# Altium schematic symbol library HeadersPin_1rows_M_180.SchLib: 40 symbols
Pins are listed as number, name and electrical type; pins without a type are passive.

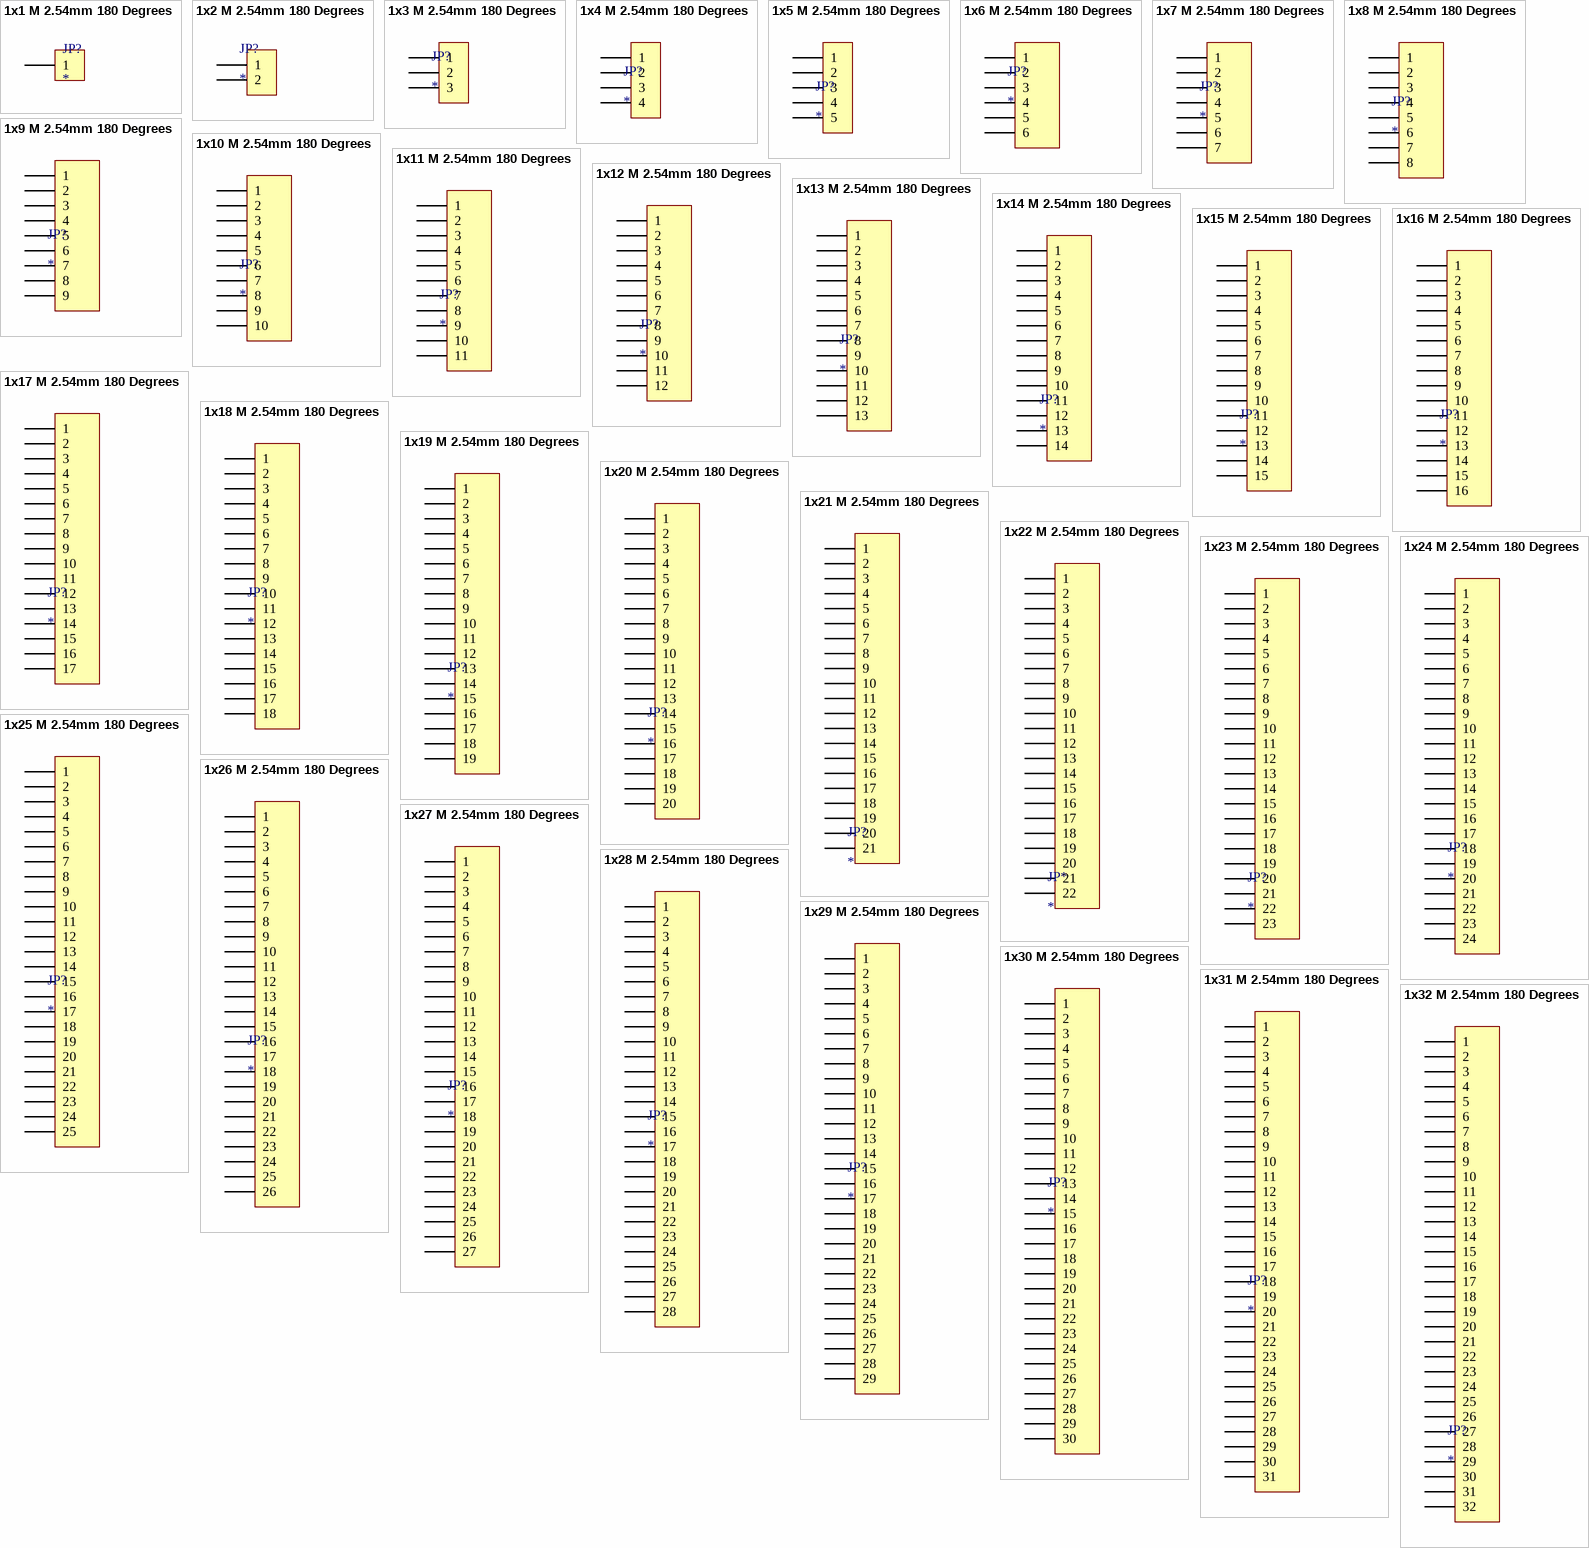
[diagram p0: symbols 1x1 M 2.54mm 180 Degrees to 1x32 M 2.54mm 180 Degrees]

## 1x1 M 2.54mm 180 Degrees
designator JP?
Designed by: ILKNUR
footprint 1X1 (M) 2.54MM 180 DEGRES
pins: 1

## 1x2 M 2.54mm 180 Degrees
designator JP?
THT Vertical Pin Header WR-PHD, Pitch 2.54 mm, Single Row, 2 pins; Manufacturer: Wurth Electronics; Manufacturer Part Number: 61300211121; Designed by: ILKNUR; Current Rating: 3A; Voltage Rating: 250V; Number of Positions: 2; Contact Resistance: 20mR; Gender: 29Gender; Pitch: 0.1inch; Supplier 1: Digikey; RoHS: Yes; Category: Headers and Wire Housings; Stock 1: 96555; Pricing 1: 1=0,13, 10=0,113, 25=0,094, 50=0,079, 100=0,071, 1000=0,065 (USD); Mount: Through Hole; Contact Plating: Gold; Housing Material: PBT; Contact Material: Copper Alloy,Copper; Color: Black; Min Operating Temperature: -40°C; Max Operating Temperature: 125°C; Number of Rows: 1; Contact Gender: Male; Packaging: Bulk; Termination: Through Hole; Number of Contacts: 2; Series: WR-PHD; Contact Type: Male Pin; Operating Supply Voltage: 250V; Orientation: 5495OrientationType; Height: 8.94mm; Contact Mating Length: 0.236inch; RoHS Compliant: Yes; Reach SVHC Compliant: Unknown; Lead Free: 5697LeadFree; ComponentLink1URL: https://datasheet.ciiva.com/13619/6130xx11121-48870-13619345.pdf?src-supplier=Mouser; ComponentLink1Description: https://datasheet.ciiva.com/13619/6130xx11121-48870-13619345.pdf?src-supplier=Mouser; Supplier Part Number 1: 732-5315-ND
footprint 1x2 (M) 2.54MM 180 DEGRES
pins: 1, 2

## 1x3 M 2.54mm 180 Degrees
designator JP?
THT Vertical Pin Header WR-PHD, Pitch 2.54 mm, Single Row, 3 pins; Manufacturer: Wurth Electronics; Manufacturer Part Number: 61300311121; Designed by: ILKNUR; Number of Positions: 3; Gender: Male; Contact Resistance: 20mR; Current Rating: 3A; Voltage Rating: 250V; Pitch: 0.1inch; Supplier 1: Digikey; RoHS: Yes; Category: Headers and Wire Housings; Stock 1: 135181; Pricing 1: 1=0,13, 10=0,113, 25=0,094, 50=0,079, 100=0,071, 1000=0,066 (USD); Mount: Through Hole; Contact Plating: Gold; Contact Material: Copper; Color: Black; Min Operating Temperature: -40°C; Max Operating Temperature: 105°C; Number of Rows: 1; Packaging: Bulk; Termination: Solder; Number of Contacts: 3; Series: WR-PHD; Contact Type: Male Pin; Operating Supply Voltage: 250V; Orientation: 5495OrientationType; Height: 8.94mm; Contact Mating Length: 0.236inch; Lead Free: Lead Free; RoHS Compliant: Yes; Reach SVHC Compliant: Unknown; ComponentLink1URL: http://www.farnell.com/cad/1737268.pdf?src-supplier=Element14; ComponentLink1Description: http://www.farnell.com/cad/1737268.pdf?src-supplier=Element14; ComponentLink2URL: https://datasheet.octopart.com/61300311121-W%C3%BCrth-Elektronik-datasheet-21154836.pdf?src-supplier=Element14; ComponentLink2Description: https://datasheet.octopart.com/61300311121-W%C3%BCrth-Elektronik-datasheet-21154836.pdf?src-supplier=Element14; ComponentLink3URL: https://katalog.we-online.de/em/datasheet/6130xx11121.pdf?src-supplier=Digikey; ComponentLink3Description: https://katalog.we-online.de/em/datasheet/6130xx11121.pdf?src-supplier=Digikey; Supplier Part Number 1: 732-5316-ND
footprint 1x3 (M) 2.54mm 180 Degres
pins: 1, 2, 3

## 1x4 M 2.54mm 180 Degrees
designator JP?
THT Vertical Pin Header WR-PHD, Pitch 2.54 mm, Single Row, 4 pins; Manufacturer: Wurth Electronics; Manufacturer Part Number: 61300411121; Designed by: ILKNUR; Number of Positions: 4; Operating Supply Voltage: 250V; Contact Resistance: 20mR; Current Rating: 3A; Gender: 29Gender; Pitch: 0.1inch; Supplier 1: Digikey; RoHS: Yes; Category: Headers and Wire Housings; Stock 1: 28494; Pricing 1: 1=0,19, 10=0,163, 25=0,1352, 50=0,113, 100=0,102, 1000=0,094 (USD); Mount: Through Hole; Contact Plating: Gold; Contact Material: Copper; Color: Black; Min Operating Temperature: -40°C; Max Operating Temperature: 105°C; Number of Rows: 1; Packaging: Bulk; Termination: Solder; Number of Contacts: 4; Series: WR-PHD; Contact Type: Male Pin; Orientation: 5495OrientationType; Voltage Rating: 250V; Height: 8.89mm; Contact Mating Length: 0.236inch; RoHS Compliant: Yes; Reach SVHC Compliant: Unknown; Lead Free: 5697LeadFree; ComponentLink1URL: http://www.farnell.com/cad/1737268.pdf?src-supplier=Element14; ComponentLink1Description: http://www.farnell.com/cad/1737268.pdf?src-supplier=Element14; ComponentLink2URL: https://datasheet.octopart.com/61300411121-W%C3%BCrth-Elektronik-datasheet-21154836.pdf?src-supplier=Element14; ComponentLink2Description: https://datasheet.octopart.com/61300411121-W%C3%BCrth-Elektronik-datasheet-21154836.pdf?src-supplier=Element14; ComponentLink3URL: https://katalog.we-online.de/em/datasheet/6130xx11121.pdf?src-supplier=Digikey; ComponentLink3Description: https://katalog.we-online.de/em/datasheet/6130xx11121.pdf?src-supplier=Digikey; Supplier Part Number 1: 732-5317-ND
footprint 1X4 (M) 2.54mm 180 Degres
pins: 1, 2, 3, 4

## 1x5 M 2.54mm 180 Degrees
designator JP?
THT Vertical Pin Header WR-PHD, Pitch 2.54 mm, Single Row, 5 pins; Manufacturer: Wurth Electronics; Manufacturer Part Number: 61300511121; Designed by: ILKNUR; Number of Positions: 5; Gender: Male; Contact Resistance: 20mR; Current Rating: 3A; Operating Supply Voltage: 250V; Pitch: 0.1inch; Supplier 1: Digikey; RoHS: Yes; Category: Headers and Wire Housings; Stock 1: 10514; Pricing 1: 1=0,26, 10=0,222, 25=0,1852, 50=0,155, 100=0,141, 1000=0,128 (USD); Mount: Through Hole; Contact Plating: Gold; Contact Material: Copper; Color: Black; Min Operating Temperature: -40°C; Max Operating Temperature: 105°C; Number of Rows: 1; Packaging: Bulk; Termination: Solder; Number of Contacts: 5; Series: WR-PHD; Contact Type: Male Pin; Orientation: 5495OrientationType; Voltage Rating: 250V; Height: 8.89mm; Contact Mating Length: 0.236inch; Lead Free: Lead Free; RoHS Compliant: Yes; Reach SVHC Compliant: Unknown; ComponentLink1URL: http://www.farnell.com/cad/1737268.pdf?src-supplier=Element14; ComponentLink1Description: http://www.farnell.com/cad/1737268.pdf?src-supplier=Element14; ComponentLink2URL: https://datasheet.octopart.com/61300511121-W%C3%BCrth-Elektronik-datasheet-21154836.pdf?src-supplier=Element14; ComponentLink2Description: https://datasheet.octopart.com/61300511121-W%C3%BCrth-Elektronik-datasheet-21154836.pdf?src-supplier=Element14; ComponentLink3URL: https://katalog.we-online.de/em/datasheet/6130xx11121.pdf?src-supplier=Digikey; ComponentLink3Description: https://katalog.we-online.de/em/datasheet/6130xx11121.pdf?src-supplier=Digikey; Supplier Part Number 1: 732-5318-ND
footprint 1X5 (M) 2.54MM 180 DEGRES
pins: 1, 2, 3, 4, 5

## 1x6 M 2.54mm 180 Degrees
designator JP?
THT Vertical Pin Header WR-PHD, Pitch 2.54 mm, Single Row, 6 pins; Manufacturer: Wurth Electronics; Manufacturer Part Number: 61300611121; Designed by: ILKNUR; Current Rating: 3A; Voltage Rating: 250V; Number of Positions: 6; Gender: 29Gender; Contact Resistance: 20mR; Pitch: 0.1inch; Supplier 1: Digikey; RoHS: Yes; Category: Headers and Wire Housings; Stock 1: 17321; Pricing 1: 1=0,35, 10=0,298, 25=0,2472, 50=0,207, 100=0,187, 1000=0,171 (USD); Mount: Through Hole; Contact Plating: Gold; Contact Material: Copper Alloy,Copper; Housing Material: PBT; Color: Black; Min Operating Temperature: -40°C; Max Operating Temperature: 125°C; Number of Rows: 1; Contact Gender: Male; Packaging: Bulk; Termination: Through Hole; Number of Contacts: 6; Series: WR-PHD; Contact Type: Male Pin; Operating Supply Voltage: 250V; Orientation: 5495OrientationType; Height: 8.89mm; Contact Mating Length: 0.236inch; RoHS Compliant: Yes; Reach SVHC Compliant: Unknown; Lead Free: 5697LeadFree; ComponentLink1URL: http://www.mouser.com/ds/2/445/6130xx11121-538006.pdf?src-supplier=Mouser; ComponentLink1Description: http://www.mouser.com/ds/2/445/6130xx11121-538006.pdf?src-supplier=Mouser; ComponentLink2URL: http://www.farnell.com/cad/1737268.pdf?src-supplier=Element14; ComponentLink2Description: http://www.farnell.com/cad/1737268.pdf?src-supplier=Element14; ComponentLink3URL: https://datasheet.octopart.com/61300611121-W%C3%BCrth-Elektronik-datasheet-21154836.pdf?src-supplier=Element14; ComponentLink3Description: https://datasheet.octopart.com/61300611121-W%C3%BCrth-Elektronik-datasheet-21154836.pdf?src-supplier=Element14; ComponentLink4URL: https://katalog.we-online.de/em/datasheet/6130xx11121.pdf?src-supplier=Digikey; ComponentLink4Description: https://katalog.we-online.de/em/datasheet/6130xx11121.pdf?src-supplier=Digikey; Supplier Part Number 1: 732-5319-ND
footprint 1X6 (M) 2.54MM 180 DEGRES
pins: 1, 2, 3, 4, 5, 6

## 1x7 M 2.54mm 180 Degrees
designator JP?
Designed by: ILKNUR
footprint 1X7 (M) 2.54MM 180 DEGRES
pins: 1, 2, 3, 4, 5, 6, 7

## 1x8 M 2.54mm 180 Degrees
designator JP?
THT Vertical Pin Header WR-PHD, Pitch 2.54 mm, Single Row, 8 pins; Manufacturer: Wurth Electronics; Manufacturer Part Number: 61300811121; Designed by: ILKNUR; Number of Positions: 8; Operating Supply Voltage: 250V; Contact Resistance: 20mR; Current Rating: 3A; Gender: 29Gender; Pitch: 0.1inch; Supplier 1: Digikey; RoHS: Yes; Category: Headers and Wire Housings; Stock 1: 9344; Pricing 1: 1=0,4, 10=0,336, 25=0,28, 50=0,234, 100=0,212, 1000=0,193 (USD); Mount: Through Hole; Contact Plating: Gold; Contact Material: Copper; Color: Black; Min Operating Temperature: -40°C; Max Operating Temperature: 105°C; Number of Rows: 1; Packaging: Bulk; Termination: Solder; Number of Contacts: 8; Series: WR-PHD; Contact Type: Male Pin; Orientation: 5495OrientationType; Voltage Rating: 250V; Height: 8.54mm; Contact Mating Length: 0.236inch; RoHS Compliant: Yes; Reach SVHC Compliant: Unknown; ComponentLink1URL: https://datasheet.octopart.com/61300811121-W%C3%BCrth-Elektronik-datasheet-21154836.pdf?src-supplier=Element14; ComponentLink1Description: https://datasheet.octopart.com/61300811121-W%C3%BCrth-Elektronik-datasheet-21154836.pdf?src-supplier=Element14; ComponentLink2URL: https://katalog.we-online.de/em/datasheet/6130xx11121.pdf?src-supplier=Digikey; ComponentLink2Description: https://katalog.we-online.de/em/datasheet/6130xx11121.pdf?src-supplier=Digikey; Supplier Part Number 1: 732-5321-ND
footprint 1X8 (M) 2.54MM 180 DEGRES
pins: 1, 2, 3, 4, 5, 6, 7, 8

## 1x9 M 2.54mm 180 Degrees
designator JP?
Designed by: ILKNUR
footprint 1X9 (M) 2.54MM 180 DEGRES
pins: 1, 2, 3, 4, 5, 6, 7, 8, 9

## 1x10 M 2.54mm 180 Degrees
designator JP?
Designed by: ILKNUR
footprint 1X10 (M) 2.54MM 180 DEGRES
pins: 1, 2, 3, 4, 5, 6, 7, 8, 9, 10

## 1x11 M 2.54mm 180 Degrees
designator JP?
Designed by: ILKNUR
footprint 1X11 (M) 2.54MM 180 DEGRES
pins: 1, 2, 3, 4, 5, 6, 7, 8, 9, 10, 11

## 1x12 M 2.54mm 180 Degrees
designator JP?
Designed by: ILKNUR
footprint 1X12 (M) 2.54MM 180 DEGRES
pins: 1, 2, 3, 4, 5, 6, 7, 8, 9, 10, 11, 12

## 1x13 M 2.54mm 180 Degrees
designator JP?
Designed by: ILKNUR
footprint 1X13 (M) 2.54MM 180 DEGRES
pins: 1, 2, 3, 4, 5, 6, 7, 8, 9, 10, 11, 12, 13

## 1x14 M 2.54mm 180 Degrees
designator JP?
Designed by: ILKNUR
footprint 1X14 (M) 2.54MM 180 DEGRES
pins: 1, 2, 3, 4, 5, 6, 7, 8, 9, 10, 11, 12, 13, 14

## 1x15 M 2.54mm 180 Degrees
designator JP?
Designed by: ILKNUR
footprint 1X15 (M) 2.54MM 180 DEGRES
pins: 1, 2, 3, 4, 5, 6, 7, 8, 9, 10, 11, 12, 13, 14, 15

## 1x16 M 2.54mm 180 Degrees
designator JP?
Designed by: ILKNUR
footprint 1X16 (M) 2.54MM 180 DEGRES
pins: 1, 2, 3, 4, 5, 6, 7, 8, 9, 10, 11, 12, 13, 14, 15, 16

## 1x17 M 2.54mm 180 Degrees
designator JP?
Pin- & Female Header Male Tht 2; Manufacturer: ASSMANN WSW Components; Manufacturer Part Number: AW140-EG-Z17D; Designed by: ILKNUR; Supplier 1: DigiKey; Pricing 1: 5600=0,26068 (USD); Supplier Part Number 1: 123-AW140-EG-Z17D-ND
footprint 1X17 (M) 2.54MM 180 DEGRES
pins: 1, 2, 3, 4, 5, 6, 7, 8, 9, 10, 11, 12, 13, 14, 15, 16, 17

## 1x18 M 2.54mm 180 Degrees
designator JP?
Pin- & Female Header Male Tht 2; Manufacturer: ASSMANN WSW Components; Manufacturer Part Number: AW140-EG-Z18D; Designed by: ILKNUR; Supplier 1: DigiKey; Pricing 1: 5600=0,30169 (USD); Supplier Part Number 1: 123-AW140-EG-Z18D-ND
footprint 1X18 (M) 2.54MM 180 DEGRES
pins: 1, 2, 3, 4, 5, 6, 7, 8, 9, 10, 11, 12, 13, 14, 15, 16, 17, 18

## 1x19 M 2.54mm 180 Degrees
designator JP?
Pin- & Female Header Male Tht 2; Manufacturer: ASSMANN WSW Components; Manufacturer Part Number: AW140-EG-Z19D; Designed by: ILKNUR; Supplier 1: DigiKey; Pricing 1: 5600=0,34855 (USD); Supplier Part Number 1: 123-AW140-EG-Z19D-ND
footprint 1X19 (M) 2.54MM 180 DEGRES
pins: 1, 2, 3, 4, 5, 6, 7, 8, 9, 10, 11, 12, 13, 14, 15, 16, 17, 18, 19

## 1x20 M 2.54mm 180 Degrees
designator JP?
Designed by: ILKNUR
footprint 1X20 (M) 2.54MM 180 DEGRES
pins: 1, 2, 3, 4, 5, 6, 7, 8, 9, 10, 11, 12, 13, 14, 15, 16, 17, 18, 19, 20

## 1x21 M 2.54mm 180 Degrees
designator JP?
Designed by: ILKNUR
footprint 1X21 (M) 2.54MM 180 DEGRES
pins: 1, 2, 3, 4, 5, 6, 7, 8, 9, 10, 11, 12, 13, 14, 15, 16, 17, 18, 19, 20, 21

## 1x22 M 2.54mm 180 Degrees
designator JP*
Designed by: ILKNUR
footprint 1X22 (M) 2.54MM 180 DEGRES
pins: 1, 2, 3, 4, 5, 6, 7, 8, 9, 10, 11, 12, 13, 14, 15, 16, 17, 18, 19, 20, 21, 22

## 1x23 M 2.54mm 180 Degrees
designator JP?
Designed by: ILKNUR
footprint 1x23 (M) 2.54MM 180 DEGRES
pins: 1, 2, 3, 4, 5, 6, 7, 8, 9, 10, 11, 12, 13, 14, 15, 16, 17, 18, 19, 20, 21, 22, 23

## 1x24 M 2.54mm 180 Degrees
designator JP?
Designed by: ILKNUR
footprint 1X24 (M) 2.54MM 180 DEGRES
pins: 1, 2, 3, 4, 5, 6, 7, 8, 9, 10, 11, 12, 13, 14, 15, 16, 17, 18, 19, 20, 21, 22, 23, 24

## 1x25 M 2.54mm 180 Degrees
designator JP?
Designed by: ILKNUR
footprint 1X25 (M) 2.54MM 180 DEGRES
pins: 1, 2, 3, 4, 5, 6, 7, 8, 9, 10, 11, 12, 13, 14, 15, 16, 17, 18, 19, 20, 21, 22, 23, 24, 25

## 1x26 M 2.54mm 180 Degrees
designator JP?
Designed by: ILKNUR
footprint 1X26 (M) 2.54MM 180 DEGRES
pins: 1, 2, 3, 4, 5, 6, 7, 8, 9, 10, 11, 12, 13, 14, 15, 16, 17, 18, 19, 20, 21, 22, 23, 24, 25, 26

## 1x27 M 2.54mm 180 Degrees
designator JP?
Designed by: ILKNUR
footprint 1X27 (M) 2.54MM 180 DEGRES
pins: 1, 2, 3, 4, 5, 6, 7, 8, 9, 10, 11, 12, 13, 14, 15, 16, 17, 18, 19, 20, 21, 22, 23, 24, 25, 26, 27

## 1x28 M 2.54mm 180 Degrees
designator JP?
Designed by: ILKNUR
footprint 1X28 (M) 2.54MM 180 DEGRES
pins: 1, 2, 3, 4, 5, 6, 7, 8, 9, 10, 11, 12, 13, 14, 15, 16, 17, 18, 19, 20, 21, 22, 23, 24, 25, 26, 27, 28

## 1x29 M 2.54mm 180 Degrees
designator JP?
Designed by: ILKNUR
footprint 1X29 (M) 2.54MM 180 DEGRES
pins: 1, 2, 3, 4, 5, 6, 7, 8, 9, 10, 11, 12, 13, 14, 15, 16, 17, 18, 19, 20, 21, 22, 23, 24, 25, 26, 27, 28, 29

## 1x30 M 2.54mm 180 Degrees
designator JP?
Designed by: ILKNUR
footprint 1X30 (M) 2.54MM 180 DEGRES
pins: 1, 2, 3, 4, 5, 6, 7, 8, 9, 10, 11, 12, 13, 14, 15, 16, 17, 18, 19, 20, 21, 22, 23, 24, 25, 26, 27, 28, 29, 30

## 1x31 M 2.54mm 180 Degrees
designator JP?
Designed by: ILKNUR
footprint 1X31 (M) 2.54MM 180 DEGRES
pins: 1, 2, 3, 4, 5, 6, 7, 8, 9, 10, 11, 12, 13, 14, 15, 16, 17, 18, 19, 20, 21, 22, 23, 24, 25, 26, 27, 28, 29, 30, 31

## 1x32 M 2.54mm 180 Degrees
designator JP?
Designed by: ILKNUR
footprint 1X32 (M) 2.54MM 180 DEGRES
pins: 1, 2, 3, 4, 5, 6, 7, 8, 9, 10, 11, 12, 13, 14, 15, 16, 17, 18, 19, 20, 21, 22, 23, 24, 25, 26, 27, 28, 29, 30, 31, 32

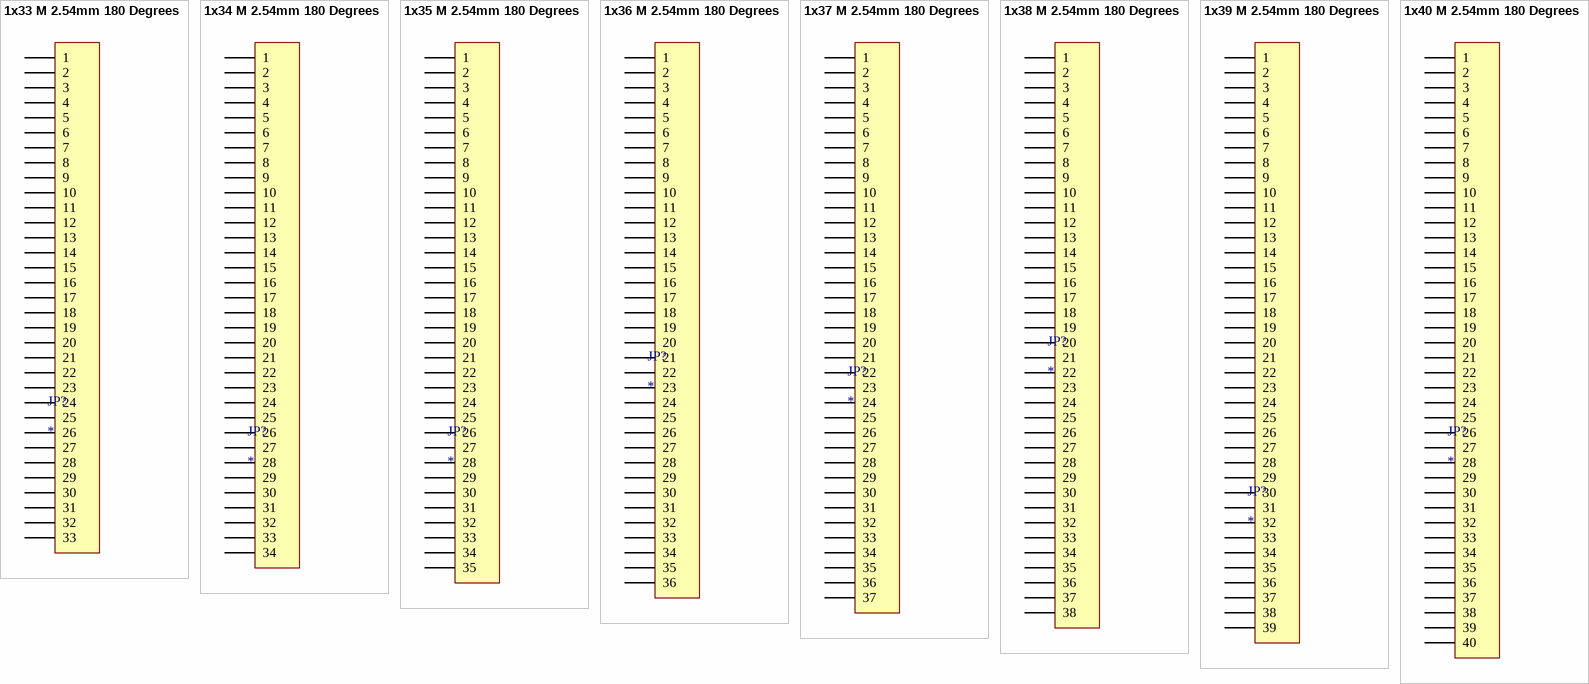
[diagram p1: symbols 1x33 M 2.54mm 180 Degrees to 1x40 M 2.54mm 180 Degrees]

## 1x33 M 2.54mm 180 Degrees
designator JP?
Designed by: ILKNUR
footprint 1X34 (M) 2.54MM 180 DEGRES
pins: 1, 2, 3, 4, 5, 6, 7, 8, 9, 10, 11, 12, 13, 14, 15, 16, 17, 18, 19, 20, 21, 22, 23, 24, 25, 26, 27, 28, 29, 30, 31, 32, 33

## 1x34 M 2.54mm 180 Degrees
designator JP?
footprint 1X34 (M) 2.54MM 180 DEGRES
pins: 1, 2, 3, 4, 5, 6, 7, 8, 9, 10, 11, 12, 13, 14, 15, 16, 17, 18, 19, 20, 21, 22, 23, 24, 25, 26, 27, 28, 29, 30, 31, 32, 33, 34

## 1x35 M 2.54mm 180 Degrees
designator JP?
Designed by: ILKNUR
footprint 1X35(M) 2.54MM 180 DEGRES
pins: 1, 2, 3, 4, 5, 6, 7, 8, 9, 10, 11, 12, 13, 14, 15, 16, 17, 18, 19, 20, 21, 22, 23, 24, 25, 26, 27, 28, 29, 30, 31, 32, 33, 34, 35

## 1x36 M 2.54mm 180 Degrees
designator JP?
Designed by: ILKNUR
footprint 1X36 (M) 2.54MM 180 DEGRES
pins: 1, 2, 3, 4, 5, 6, 7, 8, 9, 10, 11, 12, 13, 14, 15, 16, 17, 18, 19, 20, 21, 22, 23, 24, 25, 26, 27, 28, 29, 30, 31, 32, 33, 34, 35, 36

## 1x37 M 2.54mm 180 Degrees
designator JP?
Designed by: ILKNUR
footprint 1X37 (M) 2.54MM 180 DEGRES
pins: 1, 2, 3, 4, 5, 6, 7, 8, 9, 10, 11, 12, 13, 14, 15, 16, 17, 18, 19, 20, 21, 22, 23, 24, 25, 26, 27, 28, 29, 30, 31, 32, 33, 34, 35, 36, 37

## 1x38 M 2.54mm 180 Degrees
designator JP?
Designed by: ILKNUR
footprint 1X38 (M) 2.54MM 180 DEGRES
pins: 1, 2, 3, 4, 5, 6, 7, 8, 9, 10, 11, 12, 13, 14, 15, 16, 17, 18, 19, 20, 21, 22, 23, 24, 25, 26, 27, 28, 29, 30, 31, 32, 33, 34, 35, 36, 37, 38

## 1x39 M 2.54mm 180 Degrees
designator JP?
Designed by: ILKNUR
footprint 1X39 (M) 2.54MM 180 DEGRES
pins: 1, 2, 3, 4, 5, 6, 7, 8, 9, 10, 11, 12, 13, 14, 15, 16, 17, 18, 19, 20, 21, 22, 23, 24, 25, 26, 27, 28, 29, 30, 31, 32, 33, 34, 35, 36, 37, 38, 39

## 1x40 M 2.54mm 180 Degrees
designator JP?
Designed by: ILKNUR
footprint 1X40 (M) 2.54MM 180 DEGRES
pins: 1, 2, 3, 4, 5, 6, 7, 8, 9, 10, 11, 12, 13, 14, 15, 16, 17, 18, 19, 20, 21, 22, 23, 24, 25, 26, 27, 28, 29, 30, 31, 32, 33, 34, 35, 36, 37, 38, 39, 40